# EAGLE library part NX3008CBKS (library TRANSISTORs)
Dual MOSFET, N and P Channel, 350 mA, 30 V, 1 ohm, 4.5 V, 900 mV
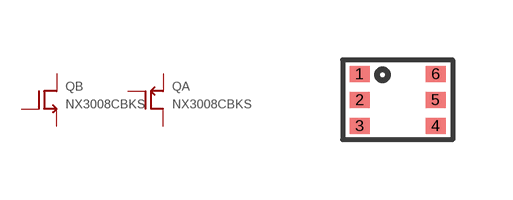
[diagram p1: symbol with the pads of SOT363-NX300; footprint SOT363-NX300]

Designator prefix Q; gates B=N_FET A=P_FET-1

## NX3008CBKS (DIGIKEY: 1727-1278-1-ND; HEIGHT: 1.1; PRICE_PER: 0.36; VAUE: NX3008CBKS)  [SOT363-NX300]
1  B:S
2  B:G
3  A:D
4  A:S
5  A:G
6  B:D

## Footprint SOT363-NX300 (pad centres in mm)
smd 0.5 x 0.4: 1 -0.95,0.65; 2 -0.95,0; 3 -0.95,-0.65; 4 0.95,-0.65; 5 0.95,0; 6 0.95,0.65